# Altium footprint library SH1.0.PcbLib: 2 footprints
Each footprint in its own frame and in the unit in brackets; x right, y up, seen from the top. Pads: shape width x height; smd on the part's side, far side on the other; paste and mask are expansions set on the pad; w line width, h text height; cw(c..) or ccw(c..) is an arc to the next point about the centre after c.
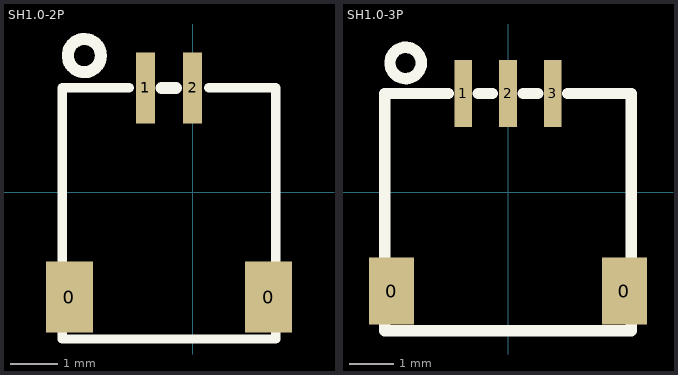
[diagram p0: the footprints below, top view; thin cyan lines are the x and y axes]

## SH1.0-2P [mm]
pads (4):
  rect 1x1.5 smd: 0(-2.601,-2.208) 0(1.601,-2.208)
  rect 0.4x1.5 smd: 1(-1,2.208) 2(0,2.208)
Top Overlay:
  circle w0.254: c-2.287,2.889 r0.35
  lines w0.2: -1.336,2.208 -2.75,2.208 -2.75,-3.092 1.75,-3.092 1.75,2.208 0.338,2.208
  lines w0.254: -0.663,2.208 -0.352,2.208

## SH1.0-3P [mm]
pads (5):
  rect 1x1.5 smd: 0(-2.601,-2.208) 0(2.601,-2.208)
  rect 0.4x1.5 smd: 1(-1,2.208) 2(0,2.208) 3(1,2.208)
Top Overlay:
  circle w0.254: c-2.287,2.889 r0.35
  lines w0.254: -1.336,2.208 -2.75,2.208 -2.75,-3.092 2.75,-3.092 2.75,2.208 1.338,2.208 ; -0.663,2.208 -0.352,2.208 ; 0.339,2.208 0.665,2.208